# Altium footprint library tcpcontrol.PcbLib: 62 footprints (part 2 of 4)
Each footprint in its own frame and in the unit in brackets; x right, y up, seen from the top. Pads: shape width x height; smd on the part's side, far side on the other; paste and mask are expansions set on the pad; w line width, h text height; cw(c..) or ccw(c..) is an arc to the next point about the centre after c.
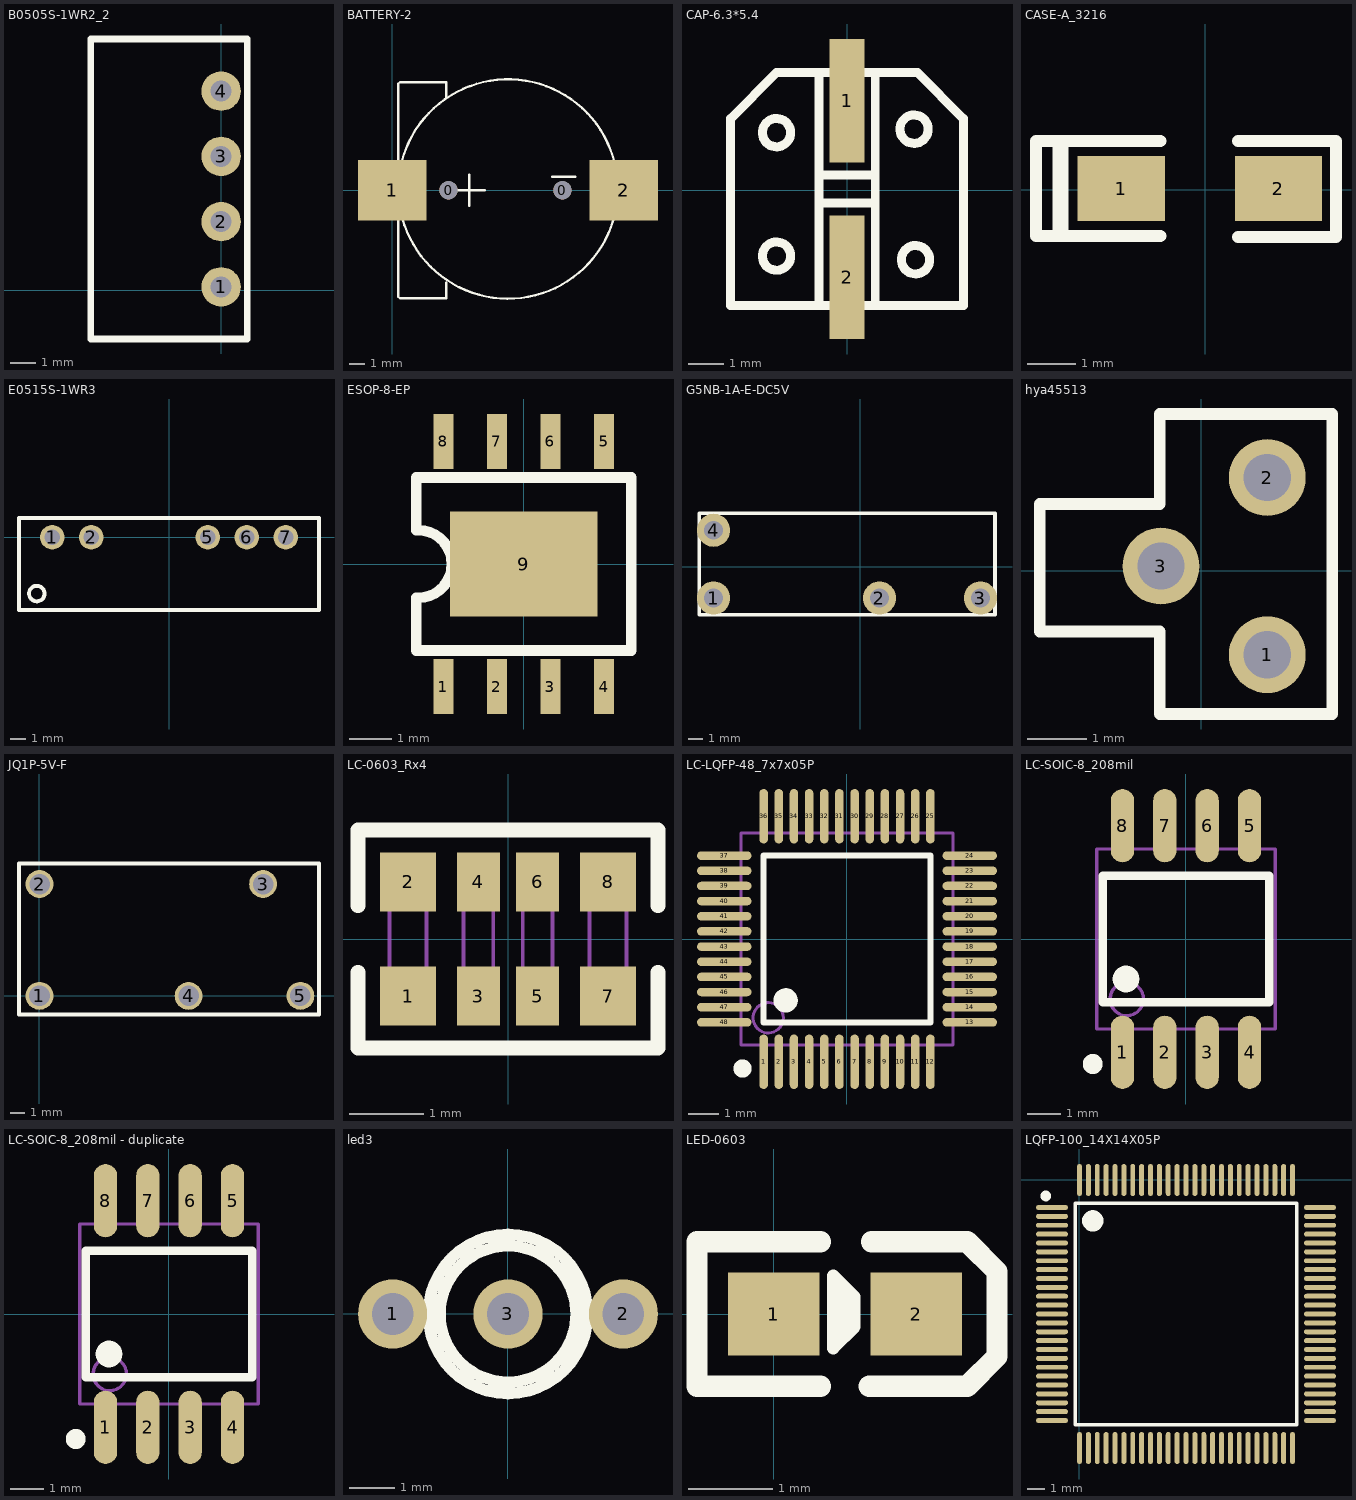
[diagram p1: the footprints below, top view; thin cyan lines are the x and y axes]

## B0505S-1WR2_2 [mil]
pads (4):
  round 60.5 hole 32: 1(0,5) 2(0,105) 3(0,205) 4(0,305)
Top Overlay:
  lines w10: -200,-75 40,-75 40,385 -200,385 -200,-75

## BATTERY-2 [mm]
height 1.1
pads (4):
  round 1.2 hole 1.2: 0(3.708,0) 0(11.201,0)
  rect 4.5x4 smd: 1(0,0) 2(15.24,0)
Top Overlay:
  lines w0.152: 3.556,-6.096 3.556,-7.112 0.508,-7.112 0.4,-7.004 0.4,0 0.4,7.004 0.508,7.112 3.556,7.112 3.556,6.096 ; 4.064,0 6.096,0 ; 5.08,-1.016 5.08,1.016 ; 10.529,0.889 12.053,0.889 ; 14.839,-0.127 cw(c7.622,0.081) 14.841,0

## CAP-6.3*5.4 [mm]
height 1.1
pads (2):
  rect 1x3.5 smd: 1(0,2.54) 2(0,-2.464)
Top Overlay:
  circle w0.254: c1.9,1.735 r0.401
  circle w0.254: c-1.999,1.636 r0.401
  circle w0.254: c-1.999,-1.864 r0.401
  circle w0.254: c1.941,-1.966 r0.401
  lines w0.254: -0.8,-3.164 -0.8,3.336 ; -0.8,-0.364 0.8,-0.364 ; -0.8,0.436 0.8,0.436 ; 0.801,-3.223 0.801,3.277 ; -3.3,-3.264 -3.3,2.036 -2,3.336 2,3.336 3.3,2.036 3.3,-3.264 -3.3,-3.264

## CASE-A_3216 [mil]
height 43.31
pads (2):
  rect 71.5x53.5 smd: 1(-69,1) 2(60,1)
Top Overlay:
  lines w10: -37,-38 -139,-38 -139,40 -37,40 ; 27,-38.8 107.4,-38.8 107.4,40 27,40
  lines w13: -119,-36 -119,38

## E0515S-1WR3 [mm]
height 1.1
pads (5):
  round 1.6 hole 1: 1(-7.62,0) 2(-5.08,0) 5(2.54,0) 6(5.08,0) 7(7.62,0)
Top Overlay:
  circle w0.254: c-8.636,-3.683 r0.508
  lines w0.254: -9.8,-4.75 -9.8,1.25 9.8,1.25 9.8,-4.75 -9.8,-4.75

## ESOP-8-EP [mm]
height 1.1
pads (9):
  rect 0.48x1.3 smd: 1(-1.905,-2.908) 2(-0.635,-2.908) 3(0.635,-2.908) 4(1.905,-2.908) 5(1.905,2.908) 6(0.635,2.908) 7(-0.635,2.908) 8(-1.905,2.908)
  rect 3.5x2.5 smd: 9(0,0)
Top Overlay:
  lines w0.254: -2.55,-0.8 -2.55,-2.05 2.55,-2.05 2.55,2.05 -2.55,2.05 -2.55,0.8 ; -2.5,-0.8 ccw(c-2.5,0) -2.5,0.8

## G5NB-1A-E-DC5V [mm]
height 1.1
pads (4):
  round 2.3 hole 1.3: 1(-10.16,-2.159) 2(1.341,-2.159) 3(8.339,-2.159) 4(-10.16,2.54)
Top Overlay:
  lines w0.254: -11.165,-3.288 -11.165,3.712 ; -11.145,-3.308 9.355,-3.308 ; -11.145,3.712 9.355,3.712 9.355,-3.288

## hya45513 [mm]
pads (3):
  round 1.3 hole 0.8: 1(1.118,-1.422) 2(1.118,1.578) 3(-0.682,0.078)
Top Overlay:
  lines w0.2: -2.735,-1.029 -0.703,-1.029 -0.703,-2.426 2.218,-2.426 2.218,2.654 -0.703,2.654 -0.703,1.13 -2.735,1.13 -2.735,-1.029
3D body "开关.STEP": height 4.75, standoff -1.75, extent -2.831,-2.136 2.069,2.364

## JQ1P-5V-F [mm]
height 1.1
pads (5):
  round 1.9 hole 1.4: 1(0,0) 2(0.003,7.617) 3(15.24,7.62) 4(10.163,-0.003) 5(17.78,0)
Top Overlay:
  lines w0.254: -0.127,9.017 19.05,9.017 19.05,-1.27 -1.397,-1.27 -1.397,9.017 0,9.017

## LC-0603_Rx4 [mm]
pads (8):
  rect 0.75x0.8 smd mask+0.051: 1(-1.35,-0.77) 2(-1.35,0.77) 7(1.35,-0.77) 8(1.35,0.77)
  rect 0.58x0.8 smd mask+0.051: 3(-0.4,-0.77) 4(-0.4,0.77) 5(0.4,-0.77) 6(0.4,0.77)
Top Overlay:
  lines w0.2: -2.025,-0.45 -2.025,-1.47 2.025,-1.47 2.025,-0.45 ; -2.025,0.45 -2.025,1.47 2.025,1.47 2.025,0.45
Mechanical 13:
  lines w0.05: -1.6,-0.8 -1.1,-0.8 -1.1,0.8 -1.6,0.8 -1.6,-0.8 ; -0.6,-0.8 -0.2,-0.8 -0.2,0.8 -0.6,0.8 -0.6,-0.8 ; 0.2,-0.8 0.6,-0.8 0.6,0.8 0.2,0.8 0.2,-0.8 ; 1.1,-0.8 1.6,-0.8 1.6,0.8 1.1,0.8 1.1,-0.8
3D body "SW3dPS-RN164P.STEP": height 0.55, standoff 0, extent -1.6,-0.8 1.6,0.8

## LC-LQFP-48_7x7x05P [mm]
pads (48):
  oval 0.28x1.8 smd mask+0.051: 1(-2.75,-4.05) 2(-2.25,-4.05) 3(-1.75,-4.05) 4(-1.25,-4.05) 5(-0.75,-4.05) 6(-0.25,-4.05) 7(0.25,-4.05) 8(0.75,-4.05) 9(1.25,-4.05) 10(1.75,-4.05) 11(2.25,-4.05) 12(2.75,-4.05) 25(2.75,4.05) 26(2.25,4.05) 27(1.75,4.05) 28(1.25,4.05) 29(0.75,4.05) 30(0.25,4.05) 31(-0.25,4.05) 32(-0.75,4.05) 33(-1.25,4.05) 34(-1.75,4.05) 35(-2.25,4.05) 36(-2.75,4.05)
  oval 1.8x0.28 smd mask+0.051: 13(4.05,-2.75) 14(4.05,-2.25) 15(4.05,-1.75) 16(4.05,-1.25) 17(4.05,-0.75) 18(4.05,-0.25) 19(4.05,0.25) 20(4.05,0.75) 21(4.05,1.25) 22(4.05,1.75) 23(4.05,2.25) 24(4.05,2.75) 37(-4.05,2.75) 38(-4.05,2.25) 39(-4.05,1.75) 40(-4.05,1.25) 41(-4.05,0.75) 42(-4.05,0.25) 43(-4.05,-0.25) 44(-4.05,-0.75) 45(-4.05,-1.25) 46(-4.05,-1.75) 47(-4.05,-2.25) 48(-4.05,-2.75)
Top Overlay:
  circle w0.4: c-2.025,-2.025 r0.2
  circle w0.3: c-3.45,-4.275 r0.15
  lines w0.2: -2.75,-2.75 -2.75,2.75 2.75,2.75 2.75,-2.75 -2.75,-2.75
Mechanical 13:
  circle w0.1: c-2.6,-2.6 r0.5
  lines w0.1: -3.5,-3.5 -3.5,3.5 3.5,3.5 3.5,-3.5 -3.5,-3.5

## LC-SOIC-8_208mil [mm]
pads (8):
  oval 0.7x2.2 smd: 1(-1.905,-3.4) 2(-0.635,-3.4) 3(0.635,-3.4) 4(1.905,-3.4) 5(1.905,3.4) 6(0.635,3.4) 7(-0.635,3.4) 8(-1.905,3.4)
Top Overlay:
  circle w0.3: c-2.797,-3.75 r0.15
  circle w0.4: c-1.8,-1.2 r0.2
  lines w0.254: -2.5,-1.9 -2.5,1.9 2.5,1.9 2.5,-1.9 -2.5,-1.9
Mechanical 13:
  circle w0.1: c-1.775,-1.8 r0.5
  lines w0.1: -2.675,-2.7 -2.675,2.7 2.675,2.7 2.675,-2.7 -2.675,-2.7

## LC-SOIC-8_208mil - duplicate [mm]
pads (8):
  oval 0.7x2.2 smd: 1(-1.905,-3.4) 2(-0.635,-3.4) 3(0.635,-3.4) 4(1.905,-3.4) 5(1.905,3.4) 6(0.635,3.4) 7(-0.635,3.4) 8(-1.905,3.4)
Top Overlay:
  circle w0.4: c-1.8,-1.2 r0.2
  circle w0.3: c-2.797,-3.75 r0.15
  lines w0.254: -2.5,-1.9 2.5,-1.9 2.5,1.9 -2.5,1.9 -2.5,-1.9
Mechanical 13:
  circle w0.1: c-1.775,-1.8 r0.5
  lines w0.1: -2.675,-2.7 2.675,-2.7 2.675,2.7 -2.675,2.7 -2.675,-2.7

## led3 [mil]
pads (3):
  round 60 hole 36: 1(-100,0) 2(100,0) 3(0,0)
Top Overlay:
  circle w10: c0,0 r68.9
  circle w10: c0,0 r59.06

## LED-0603 [mil]
height 43.31
pads (2):
  rect 43x39 smd: 1(0,0) 2(67,0)
Top Overlay:
  lines w5.91: 28,9 28,18 38,8 38,-6 28,-16 28,15 ; 33,-9 33,11
  lines w10: 22,-34 -36,-34 -36,34 22,34 ; 45,-34 91,-34 105,-20 105,20 91,34 46,34
3D body "User Library-led_0603LED0603 green.STEP": height 23.62, standoff 0, extent -1.89,-15.74 61.89,15.75

## LQFP-100_14X14X05P [mm]
height 1.1
pads (100):
  oval 1.8x0.28 smd: 1(-1.549,-1.551) 2(-1.549,-2.051) 3(-1.549,-2.551) 4(-1.549,-3.049) 5(-1.549,-3.549) 6(-1.549,-4.05) 7(-1.549,-4.55) 8(-1.549,-5.051) 9(-1.549,-5.551) 10(-1.549,-6.049) 11(-1.549,-6.549) 12(-1.549,-7.05) 13(-1.549,-7.55) 14(-1.549,-8.05) 15(-1.549,-8.551) 16(-1.549,-9.051) 17(-1.549,-9.549) 18(-1.549,-10.049) 19(-1.549,-10.55) 20(-1.549,-11.05) 21(-1.549,-11.55) 22(-1.549,-12.051) 23(-1.549,-12.551) 24(-1.549,-13.049) 25(-1.549,-13.549) 51(13.549,-13.549) 52(13.549,-13.049) 53(13.549,-12.551) 54(13.549,-12.051) 55(13.549,-11.55) 56(13.549,-11.05) 57(13.549,-10.55) 58(13.549,-10.049) 59(13.549,-9.549) 60(13.549,-9.051) 61(13.549,-8.551) 62(13.549,-8.05) 63(13.549,-7.55) 64(13.549,-7.05) 65(13.549,-6.549) 66(13.549,-6.049) 67(13.549,-5.551) 68(13.549,-5.051) 69(13.549,-4.55) 70(13.549,-4.05) 71(13.549,-3.549) 72(13.549,-3.049) 73(13.549,-2.551) 74(13.549,-2.051) 75(13.549,-1.551)
  oval 0.28x1.8 smd: 26(0.001,-15.099) 27(0.501,-15.099) 28(1.001,-15.099) 29(1.499,-15.099) 30(1.999,-15.099) 31(2.5,-15.099) 32(3,-15.099) 33(3.501,-15.099) 34(4.001,-15.099) 35(4.499,-15.099) 36(4.999,-15.099) 37(5.5,-15.099) 38(6,-15.099) 39(6.5,-15.099) 40(7.001,-15.099) 41(7.501,-15.099) 42(7.999,-15.099) 43(8.499,-15.099) 44(9,-15.099) 45(9.5,-15.099) 46(10,-15.099) 47(10.501,-15.099) 48(11.001,-15.099) 49(11.499,-15.099) 50(11.999,-15.099) 76(11.999,-0.001) 77(11.499,-0.001) 78(11.001,-0.001) 79(10.501,-0.001) 80(10,-0.001) 81(9.5,-0.001) 82(9,-0.001) 83(8.499,-0.001) 84(7.999,-0.001) 85(7.501,-0.001) 86(7.001,-0.001) 87(6.5,-0.001) 88(6,-0.001) 89(5.5,-0.001) 90(4.999,-0.001) 91(4.499,-0.001) 92(4.001,-0.001) 93(3.501,-0.001) 94(3,-0.001) 95(2.5,-0.001) 96(1.999,-0.001) 97(1.499,-0.001) 98(1.001,-0.001) 99(0.501,-0.001) 100(0.001,-0.001)
Top Overlay:
  lines w0.2: -0.25,-13.8 -0.25,-1.3 12.25,-1.3 12.25,-13.8 -0.25,-13.8
  lines w0.3: -1.75,-0.903 cw(c-1.9,-0.902) -1.75,-0.9
  lines w0.6: 1.05,-2.305 cw(c0.75,-2.302) 1.05,-2.3